# EAGLE library part FXMAR2102 (library bschulz_Old)
Fairchild bi-directional logic level shifter, 5v tollerent, open drain/tri state inputs
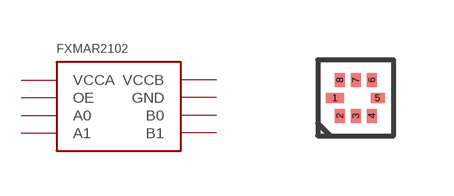
[diagram p9: symbol with the pads of MICROPAK_8; footprint MICROPAK_8]

Designator prefix -

## FXMAR2102  [MICROPAK_8]
1  VCCA  pwr
2  A0
3  A1
4  GND  in
5  OE  in
6  B1
7  B0
8  VCCB  pwr

## Footprint MICROPAK_8 (pad centres in mm)
smd 0.45 x 0.25: 1 -0.525,0
smd 0.25 x 0.35: 2 -0.4,-0.45; 3 0,-0.45; 4 0.4,-0.45; 6 0.4,0.45; 7 0,0.45; 8 -0.4,0.45
smd 0.35 x 0.25: 5 0.55,0